# EAGLE library part TLC5958 (library Strutz Electronic Industries)
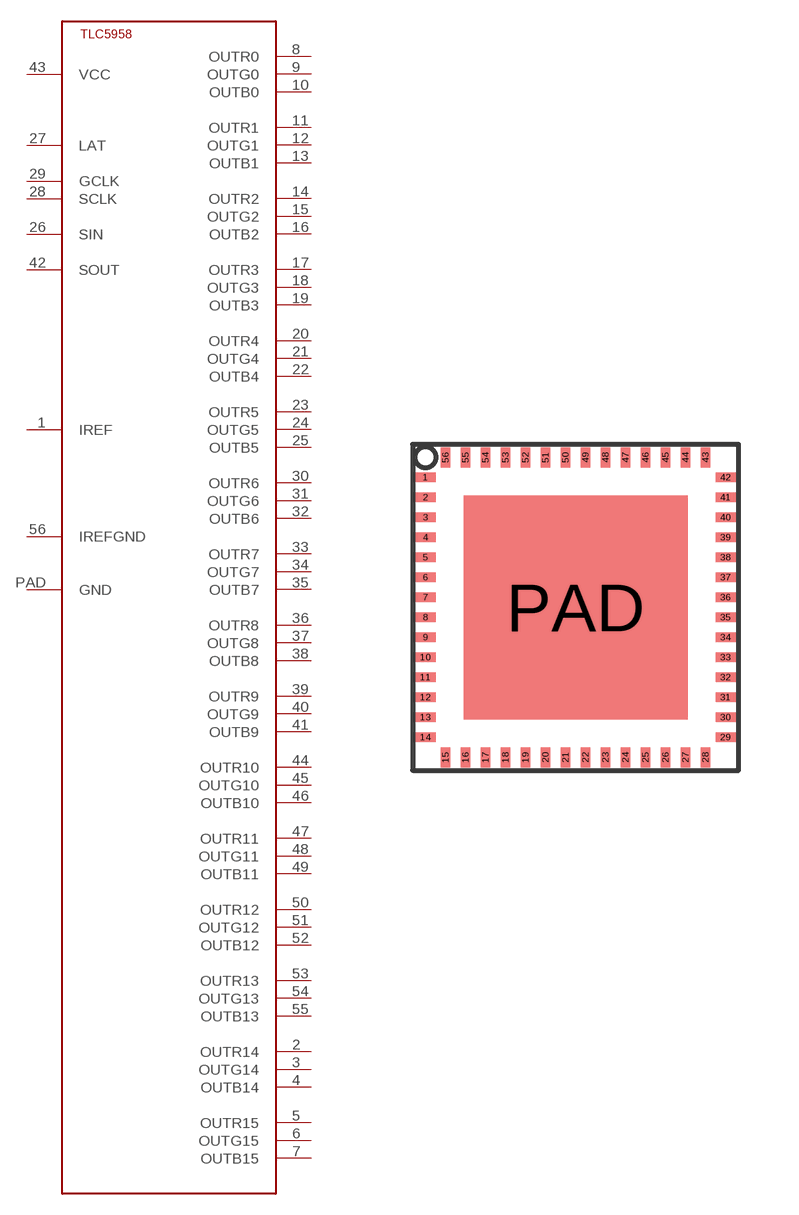
[diagram p48: symbol with the pads of QFN-56,8X8; footprint QFN-56,8X8]

Designator prefix -

## TLC5958  [QFN-56,8X8]
1  IREF
2  OUTR14
3  OUTG14
4  OUTB14
5  OUTR15
6  OUTG15
7  OUTB15
8  OUTR0
9  OUTG0
10  OUTB0
11  OUTR1
12  OUTG1
13  OUTB1
14  OUTR2
15  OUTG2
16  OUTB2
17  OUTR3
18  OUTG3
19  OUTB3
20  OUTR4
21  OUTG4
22  OUTB4
23  OUTR5
24  OUTG5
25  OUTB5
26  SIN
27  LAT
28  SCLK
29  GCLK
30  OUTR6
31  OUTG6
32  OUTB6
33  OUTR7
34  OUTG7
35  OUTB7
36  OUTR8
37  OUTG8
38  OUTB8
39  OUTR9
40  OUTG9
41  OUTB9
42  SOUT
43  VCC
44  OUTR10
45  OUTG10
46  OUTB10
47  OUTR11
48  OUTG11
49  OUTB11
50  OUTR12
51  OUTG12
52  OUTB12
53  OUTR13
54  OUTG13
55  OUTB13
56  IREFGND
PAD  GND

## Footprint QFN-56,8X8 (pad centres in mm)
smd 0.5 x 0.24: 1 -3.75,3.25; 2 -3.75,2.75; 3 -3.75,2.25; 4 -3.75,1.75; 5 -3.75,1.25; 6 -3.75,0.75; 7 -3.75,0.25; 8 -3.75,-0.25; 9 -3.75,-0.75; 10 -3.75,-1.25; 11 -3.75,-1.75; 12 -3.75,-2.25; 13 -3.75,-2.75; 14 -3.75,-3.25; 29 3.75,-3.25; 30 3.75,-2.75; 31 3.75,-2.25; 32 3.75,-1.75; 33 3.75,-1.25; 34 3.75,-0.75; 35 3.75,-0.25; 36 3.75,0.25; 37 3.75,0.75; 38 3.75,1.25; 39 3.75,1.75; 40 3.75,2.25; 41 3.75,2.75; 42 3.75,3.25
smd 0.24 x 0.5: 15 -3.25,-3.75; 16 -2.75,-3.75; 17 -2.25,-3.75; 18 -1.75,-3.75; 19 -1.25,-3.75; 20 -0.75,-3.75; 21 -0.25,-3.75; 22 0.25,-3.75; 23 0.75,-3.75; 24 1.25,-3.75; 25 1.75,-3.75; 26 2.25,-3.75; 27 2.75,-3.75; 28 3.25,-3.75; 43 3.25,3.75; 44 2.75,3.75; 45 2.25,3.75; 46 1.75,3.75; 47 1.25,3.75; 48 0.75,3.75; 49 0.25,3.75; 50 -0.25,3.75; 51 -0.75,3.75; 52 -1.25,3.75; 53 -1.75,3.75; 54 -2.25,3.75; 55 -2.75,3.75; 56 -3.25,3.75
smd 5.6 x 5.6: PAD 0,0